# Altium integrated library Altium_WCAP-CSGP (rev22a).IntLib: 953 symbols (part 11 of 17)
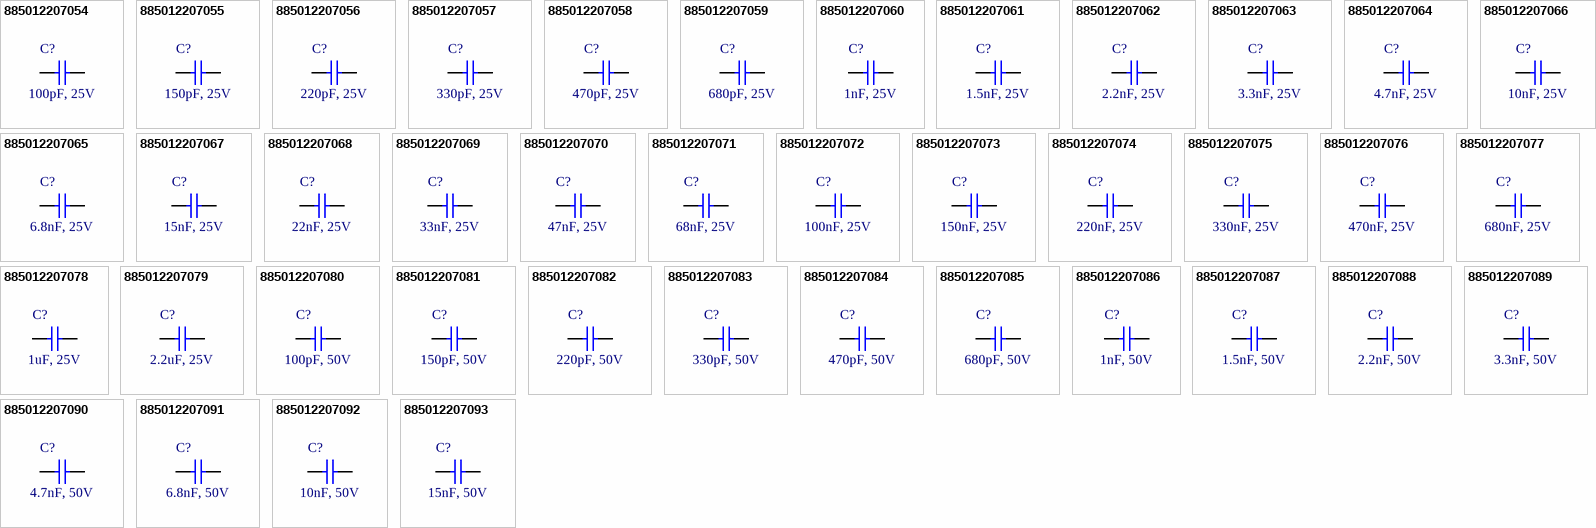
[diagram p37: symbols 885012207054 to 885012207093]

## 885012207086
designator C?, comment 1nF, 50V
WCAP-CSGP Multilayer Ceramic Chip Capacitor, General Purpose, size 0805, X7R, 1nF, 50V; Manufacturer: Wurth Elektronik; Manufacturer Part Number: 885012207086; Capacitance Tolerance: +/-10%; Dissipation Factor: 2.5%; Isolation Resistance: 10GOhm; Technical Reference: X7R0805102K050DFCT10000; Capacitance: 1nF; Ceramic Type: X7R; ComponentLink1Description: Manufacturer Link; ComponentLink1URL: http://www.we-online.de; ComponentLink2Description: Datasheet; ComponentLink2URL: https://www.we-online.com/catalog/datasheet/885012207086.pdf; Height: 0.8mm; Length: 2mm; Mounting Technology: SMT; Operating Temperature max.: 125C; Operating Temperature min.: -55C; Packaging: Tape and Reel; Rated Voltage: 50V; Size: 0805; Width: 1.25mm
footprint WCAP-CSGP_0805_L2W1.25H0.8_Wave
footprint WCAP-CSGP_0805_L2W1.25H0.8_Reflow
pins: 1, 2

## 885012207087
designator C?, comment 1.5nF, 50V
WCAP-CSGP Multilayer Ceramic Chip Capacitor, General Purpose, size 0805, X7R, 1.5nF, 50V; Manufacturer: Wurth Elektronik; Manufacturer Part Number: 885012207087; Capacitance Tolerance: +/-10%; Dissipation Factor: 2.5%; Isolation Resistance: 10GOhm; Technical Reference: X7R0805152K050DFCT10000; Capacitance: 1.5nF; Ceramic Type: X7R; ComponentLink1Description: Manufacturer Link; ComponentLink1URL: http://www.we-online.de; ComponentLink2Description: Datasheet; ComponentLink2URL: https://www.we-online.com/catalog/datasheet/885012207087.pdf; Height: 0.8mm; Length: 2mm; Mounting Technology: SMT; Operating Temperature max.: 125C; Operating Temperature min.: -55C; Packaging: Tape and Reel; Rated Voltage: 50V; Size: 0805; Width: 1.25mm
footprint WCAP-CSGP_0805_L2W1.25H0.8_Wave
footprint WCAP-CSGP_0805_L2W1.25H0.8_Reflow
pins: 1, 2

## 885012207088
designator C?, comment 2.2nF, 50V
WCAP-CSGP Multilayer Ceramic Chip Capacitor, General Purpose, size 0805, X7R, 2.2nF, 50V; Manufacturer: Wurth Elektronik; Manufacturer Part Number: 885012207088; Capacitance Tolerance: +/-10%; Dissipation Factor: 2.5%; Isolation Resistance: 10GOhm; Technical Reference: X7R0805222K050DFCT10000; Capacitance: 2.2nF; Ceramic Type: X7R; ComponentLink1Description: Manufacturer Link; ComponentLink1URL: http://www.we-online.de; ComponentLink2Description: Datasheet; ComponentLink2URL: https://www.we-online.com/catalog/datasheet/885012207088.pdf; Height: 0.8mm; Length: 2mm; Mounting Technology: SMT; Operating Temperature max.: 125C; Operating Temperature min.: -55C; Packaging: Tape and Reel; Rated Voltage: 50V; Size: 0805; Width: 1.25mm
footprint WCAP-CSGP_0805_L2W1.25H0.8_Wave
footprint WCAP-CSGP_0805_L2W1.25H0.8_Reflow
pins: 1, 2

## 885012207089
designator C?, comment 3.3nF, 50V
WCAP-CSGP Multilayer Ceramic Chip Capacitor, General Purpose, size 0805, X7R, 3.3nF, 50V; Manufacturer: Wurth Elektronik; Manufacturer Part Number: 885012207089; Capacitance Tolerance: +/-10%; Dissipation Factor: 2.5%; Isolation Resistance: 10GOhm; Technical Reference: X7R0805332K050DFCT10000; Capacitance: 3.3nF; Ceramic Type: X7R; ComponentLink1Description: Manufacturer Link; ComponentLink1URL: http://www.we-online.de; ComponentLink2Description: Datasheet; ComponentLink2URL: https://www.we-online.com/catalog/datasheet/885012207089.pdf; Height: 0.8mm; Length: 2mm; Mounting Technology: SMT; Operating Temperature max.: 125C; Operating Temperature min.: -55C; Packaging: Tape and Reel; Rated Voltage: 50V; Size: 0805; Width: 1.25mm
footprint WCAP-CSGP_0805_L2W1.25H0.8_Wave
footprint WCAP-CSGP_0805_L2W1.25H0.8_Reflow
pins: 1, 2

## 885012207090
designator C?, comment 4.7nF, 50V
WCAP-CSGP Multilayer Ceramic Chip Capacitor, General Purpose, size 0805, X7R, 4.7nF, 50V; Manufacturer: Wurth Elektronik; Manufacturer Part Number: 885012207090; Capacitance Tolerance: +/-10%; Dissipation Factor: 2.5%; Isolation Resistance: 10GOhm; Technical Reference: X7R0805472K050DFCT10000; Capacitance: 4.7nF; Ceramic Type: X7R; ComponentLink1Description: Manufacturer Link; ComponentLink1URL: http://www.we-online.de; ComponentLink2Description: Datasheet; ComponentLink2URL: https://www.we-online.com/catalog/datasheet/885012207090.pdf; Height: 0.8mm; Length: 2mm; Mounting Technology: SMT; Operating Temperature max.: 125C; Operating Temperature min.: -55C; Packaging: Tape and Reel; Rated Voltage: 50V; Size: 0805; Width: 1.25mm
footprint WCAP-CSGP_0805_L2W1.25H0.8_Wave
footprint WCAP-CSGP_0805_L2W1.25H0.8_Reflow
pins: 1, 2

## 885012207091
designator C?, comment 6.8nF, 50V
WCAP-CSGP Multilayer Ceramic Chip Capacitor, General Purpose, size 0805, X7R, 6.8nF, 50V; Manufacturer: Wurth Elektronik; Manufacturer Part Number: 885012207091; Capacitance Tolerance: +/-10%; Dissipation Factor: 2.5%; Isolation Resistance: 10GOhm; Technical Reference: X7R0805682K050DFCT10000; Capacitance: 6.8nF; Ceramic Type: X7R; ComponentLink1Description: Manufacturer Link; ComponentLink1URL: http://www.we-online.de; ComponentLink2Description: Datasheet; ComponentLink2URL: https://www.we-online.com/catalog/datasheet/885012207091.pdf; Height: 0.8mm; Length: 2mm; Mounting Technology: SMT; Operating Temperature max.: 125C; Operating Temperature min.: -55C; Packaging: Tape and Reel; Rated Voltage: 50V; Size: 0805; Width: 1.25mm
footprint WCAP-CSGP_0805_L2W1.25H0.8_Wave
footprint WCAP-CSGP_0805_L2W1.25H0.8_Reflow
pins: 1, 2

## 885012207092
designator C?, comment 10nF, 50V
WCAP-CSGP Multilayer Ceramic Chip Capacitor, General Purpose, size 0805, X7R, 10nF, 50V; Manufacturer: Wurth Elektronik; Manufacturer Part Number: 885012207092; Capacitance Tolerance: +/-10%; Dissipation Factor: 2.5%; Isolation Resistance: 10GOhm; Technical Reference: X7R0805103K050DFCT10000; Capacitance: 10nF; Ceramic Type: X7R; ComponentLink1Description: Manufacturer Link; ComponentLink1URL: http://www.we-online.de; ComponentLink2Description: Datasheet; ComponentLink2URL: https://www.we-online.com/catalog/datasheet/885012207092.pdf; Height: 0.8mm; Length: 2mm; Mounting Technology: SMT; Operating Temperature max.: 125C; Operating Temperature min.: -55C; Packaging: Tape and Reel; Rated Voltage: 50V; Size: 0805; Width: 1.25mm
footprint WCAP-CSGP_0805_L2W1.25H0.8_Wave
footprint WCAP-CSGP_0805_L2W1.25H0.8_Reflow
pins: 1, 2

## 885012207093
designator C?, comment 15nF, 50V
WCAP-CSGP Multilayer Ceramic Chip Capacitor, General Purpose, size 0805, X7R, 15nF, 50V; Manufacturer: Wurth Elektronik; Manufacturer Part Number: 885012207093; Capacitance Tolerance: +/-10%; Dissipation Factor: 2.5%; Isolation Resistance: 10GOhm; Technical Reference: X7R0805153K050DFCT10000; Capacitance: 15nF; Ceramic Type: X7R; ComponentLink1Description: Manufacturer Link; ComponentLink1URL: http://www.we-online.de; ComponentLink2Description: Datasheet; ComponentLink2URL: https://www.we-online.com/catalog/datasheet/885012207093.pdf; Height: 0.8mm; Length: 2mm; Mounting Technology: SMT; Operating Temperature max.: 125C; Operating Temperature min.: -55C; Packaging: Tape and Reel; Rated Voltage: 50V; Size: 0805; Width: 1.25mm
footprint WCAP-CSGP_0805_L2W1.25H0.8_Wave
footprint WCAP-CSGP_0805_L2W1.25H0.8_Reflow
pins: 1, 2

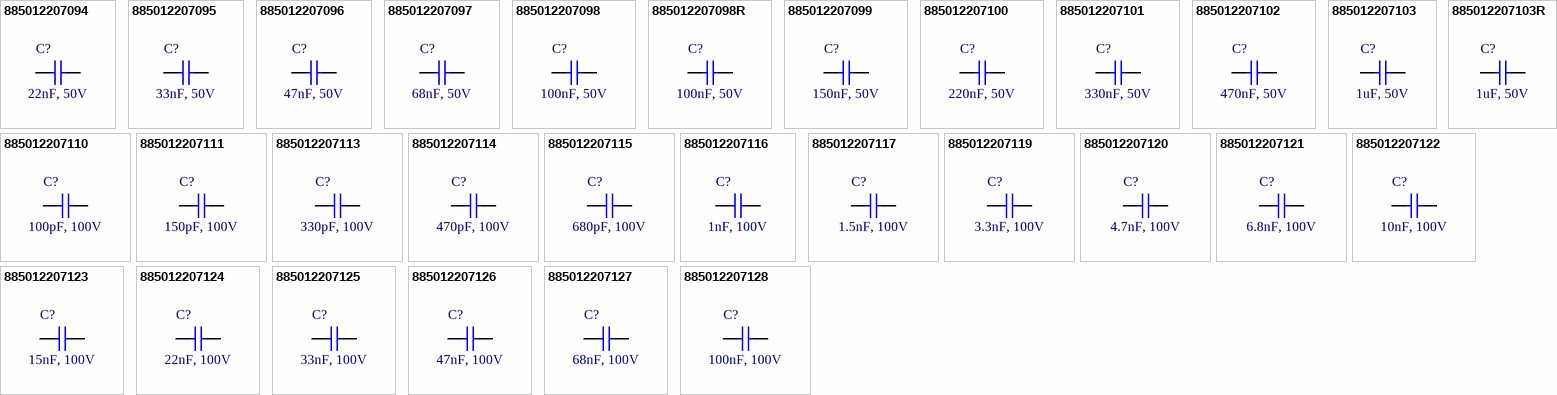
[diagram p16: symbols 885012207094 to 885012207128]

## 885012207094
designator C?, comment 22nF, 50V
WCAP-CSGP Multilayer Ceramic Chip Capacitor, General Purpose, size 0805, X7R, 22nF, 50V; Manufacturer: Wurth Elektronik; Manufacturer Part Number: 885012207094; Capacitance Tolerance: +/-10%; Dissipation Factor: 2.5%; Isolation Resistance: 10GOhm; Technical Reference: X7R0805223K050DFCT10000; Capacitance: 22nF; Ceramic Type: X7R; ComponentLink1Description: Manufacturer Link; ComponentLink1URL: http://www.we-online.de; ComponentLink2Description: Datasheet; ComponentLink2URL: https://www.we-online.com/catalog/datasheet/885012207094.pdf; Height: 0.8mm; Length: 2mm; Mounting Technology: SMT; Operating Temperature max.: 125C; Operating Temperature min.: -55C; Packaging: Tape and Reel; Rated Voltage: 50V; Size: 0805; Width: 1.25mm
footprint WCAP-CSGP_0805_L2W1.25H0.8_Wave
footprint WCAP-CSGP_0805_L2W1.25H0.8_Reflow
pins: 1, 2

## 885012207095
designator C?, comment 33nF, 50V
WCAP-CSGP Multilayer Ceramic Chip Capacitor, General Purpose, size 0805, X7R, 33nF, 50V; Manufacturer: Wurth Elektronik; Manufacturer Part Number: 885012207095; Capacitance Tolerance: +/-10%; Dissipation Factor: 2.5%; Isolation Resistance: 10GOhm; Technical Reference: X7R0805333K050DFCT10000; Capacitance: 33nF; Ceramic Type: X7R; ComponentLink1Description: Manufacturer Link; ComponentLink1URL: http://www.we-online.de; ComponentLink2Description: Datasheet; ComponentLink2URL: https://www.we-online.com/catalog/datasheet/885012207095.pdf; Height: 0.8mm; Length: 2mm; Mounting Technology: SMT; Operating Temperature max.: 125C; Operating Temperature min.: -55C; Packaging: Tape and Reel; Rated Voltage: 50V; Size: 0805; Width: 1.25mm
footprint WCAP-CSGP_0805_L2W1.25H0.8_Wave
footprint WCAP-CSGP_0805_L2W1.25H0.8_Reflow
pins: 1, 2

## 885012207096
designator C?, comment 47nF, 50V
WCAP-CSGP Multilayer Ceramic Chip Capacitor, General Purpose, size 0805, X7R, 47nF, 50V; Manufacturer: Wurth Elektronik; Manufacturer Part Number: 885012207096; Capacitance Tolerance: +/-10%; Dissipation Factor: 2.5%; Isolation Resistance: 10GOhm; Technical Reference: X7R0805473K050DFCT10000; Capacitance: 47nF; Ceramic Type: X7R; ComponentLink1Description: Manufacturer Link; ComponentLink1URL: http://www.we-online.de; ComponentLink2Description: Datasheet; ComponentLink2URL: https://www.we-online.com/catalog/datasheet/885012207096.pdf; Height: 0.8mm; Length: 2mm; Mounting Technology: SMT; Operating Temperature max.: 125C; Operating Temperature min.: -55C; Packaging: Tape and Reel; Rated Voltage: 50V; Size: 0805; Width: 1.25mm
footprint WCAP-CSGP_0805_L2W1.25H0.8_Wave
footprint WCAP-CSGP_0805_L2W1.25H0.8_Reflow
pins: 1, 2

## 885012207097
designator C?, comment 68nF, 50V
WCAP-CSGP Multilayer Ceramic Chip Capacitor, General Purpose, size 0805, X7R, 68nF, 50V; Manufacturer: Wurth Elektronik; Manufacturer Part Number: 885012207097; Capacitance Tolerance: +/-10%; Dissipation Factor: 2.5%; Isolation Resistance: 7.4GOhm; Technical Reference: X7R0805683K050DFCT10000; Capacitance: 68nF; Ceramic Type: X7R; ComponentLink1Description: Manufacturer Link; ComponentLink1URL: http://www.we-online.de; ComponentLink2Description: Datasheet; ComponentLink2URL: https://www.we-online.com/catalog/datasheet/885012207097.pdf; Height: 0.8mm; Length: 2mm; Mounting Technology: SMT; Operating Temperature max.: 125C; Operating Temperature min.: -55C; Packaging: Tape and Reel; Rated Voltage: 50V; Size: 0805; Width: 1.25mm
footprint WCAP-CSGP_0805_L2W1.25H0.8_Wave
footprint WCAP-CSGP_0805_L2W1.25H0.8_Reflow
pins: 1, 2

## 885012207098
designator C?, comment 100nF, 50V
WCAP-CSGP Multilayer Ceramic Chip Capacitor, General Purpose, size 0805, X7R, 100nF, 50V; Manufacturer: Wurth Elektronik; Manufacturer Part Number: 885012207098; Capacitance Tolerance: +/-10%; Dissipation Factor: 2.5%; Isolation Resistance: 5GOhm; Technical Reference: X7R0805104K050DFCT10000; Capacitance: 100nF; Ceramic Type: X7R; ComponentLink1Description: Manufacturer Link; ComponentLink1URL: http://www.we-online.de; ComponentLink2Description: Datasheet; ComponentLink2URL: https://www.we-online.com/catalog/datasheet/885012207098.pdf; Height: 0.8mm; Length: 2mm; Mounting Technology: SMT; Operating Temperature max.: 125C; Operating Temperature min.: -55C; Packaging: Tape and Reel; Rated Voltage: 50V; Size: 0805; Width: 1.25mm
footprint WCAP-CSGP_0805_L2W1.25H0.8_Wave
footprint WCAP-CSGP_0805_L2W1.25H0.8_Reflow
pins: 1, 2

## 885012207098R
designator C?, comment 100nF, 50V
WCAP-CSGP Multilayer Ceramic Chip Capacitor, General Purpose, size 0805, X7R, 100nF, 50V; Manufacturer: Wurth Elektronik; Manufacturer Part Number: 885012207098R; Capacitance Tolerance: +/-10%; Dissipation Factor: 2.5%; Isolation Resistance: 5GOhm; Technical Reference: X7R0805104K050DFCT20000; Capacitance: 100nF; Ceramic Type: X7R; ComponentLink1Description: Manufacturer Link; ComponentLink1URL: http://www.we-online.de; ComponentLink2Description: Datasheet; ComponentLink2URL: https://www.we-online.com/catalog/datasheet/885012207098R.pdf; Height: 0.8mm; Length: 2mm; Mounting Technology: SMT; Operating Temperature max.: 125C; Operating Temperature min.: -55C; Packaging: Tape and Reel; Rated Voltage: 50V; Size: 0805; Width: 1.25mm
footprint WCAP-CSGP_0805_L2W1.25H0.8_Wave
footprint WCAP-CSGP_0805_L2W1.25H0.8_Reflow
pins: 1, 2

## 885012207099
designator C?, comment 150nF, 50V
WCAP-CSGP Multilayer Ceramic Chip Capacitor, General Purpose, size 0805, X7R, 150nF, 50V; Manufacturer: Wurth Elektronik; Manufacturer Part Number: 885012207099; Capacitance Tolerance: +/-10%; Dissipation Factor: 2.5%; Isolation Resistance: 3.3GOhm; Technical Reference: X7R0805154K050DFCT10000; Capacitance: 150nF; Ceramic Type: X7R; ComponentLink1Description: Manufacturer Link; ComponentLink1URL: http://www.we-online.de; ComponentLink2Description: Datasheet; ComponentLink2URL: https://www.we-online.com/catalog/datasheet/885012207099.pdf; Height: 1.25mm; Length: 2mm; Mounting Technology: SMT; Operating Temperature max.: 125C; Operating Temperature min.: -55C; Packaging: Tape and Reel; Rated Voltage: 50V; Size: 0805; Width: 1.25mm
footprint WCAP-CSGP_0805_L2W1.25H1.25
pins: 1, 2

## 885012207100
designator C?, comment 220nF, 50V
WCAP-CSGP Multilayer Ceramic Chip Capacitor, General Purpose, size 0805, X7R, 220nF, 50V; Manufacturer: Wurth Elektronik; Manufacturer Part Number: 885012207100; Capacitance Tolerance: +/-10%; Dissipation Factor: 3%; Isolation Resistance: 2.3GOhm; Technical Reference: X7R0805224K050DFCT10000; Capacitance: 220nF; Ceramic Type: X7R; ComponentLink1Description: Manufacturer Link; ComponentLink1URL: http://www.we-online.de; ComponentLink2Description: Datasheet; ComponentLink2URL: https://www.we-online.com/catalog/datasheet/885012207100.pdf; Height: 1.25mm; Length: 2mm; Mounting Technology: SMT; Operating Temperature max.: 125C; Operating Temperature min.: -55C; Packaging: Tape and Reel; Rated Voltage: 50V; Size: 0805; Width: 1.25mm
footprint WCAP-CSGP_0805_L2W1.25H1.25
pins: 1, 2

## 885012207101
designator C?, comment 330nF, 50V
WCAP-CSGP Multilayer Ceramic Chip Capacitor, General Purpose, size 0805, X7R, 330nF, 50V; Manufacturer: Wurth Elektronik; Manufacturer Part Number: 885012207101; Capacitance Tolerance: +/-10%; Dissipation Factor: 3%; Isolation Resistance: 1.5GOhm; Technical Reference: X7R0805334K050DFCT10000; Capacitance: 330nF; Ceramic Type: X7R; ComponentLink1Description: Manufacturer Link; ComponentLink1URL: http://www.we-online.de; ComponentLink2Description: Datasheet; ComponentLink2URL: https://www.we-online.com/catalog/datasheet/885012207101.pdf; Height: 1.25mm; Length: 2mm; Mounting Technology: SMT; Operating Temperature max.: 125C; Operating Temperature min.: -55C; Packaging: Tape and Reel; Rated Voltage: 50V; Size: 0805; Width: 1.25mm
footprint WCAP-CSGP_0805_L2W1.25H1.25
pins: 1, 2

## 885012207102
designator C?, comment 470nF, 50V
WCAP-CSGP Multilayer Ceramic Chip Capacitor, General Purpose, size 0805, X7R, 470nF, 50V; Manufacturer: Wurth Elektronik; Manufacturer Part Number: 885012207102; Capacitance Tolerance: +/-10%; Dissipation Factor: 3%; Isolation Resistance: 1.1GOhm; Technical Reference: X7R0805474K050DFCT10000; Capacitance: 470nF; Ceramic Type: X7R; ComponentLink1Description: Manufacturer Link; ComponentLink1URL: http://www.we-online.de; ComponentLink2Description: Datasheet; ComponentLink2URL: https://www.we-online.com/catalog/datasheet/885012207102.pdf; Height: 1.25mm; Length: 2mm; Mounting Technology: SMT; Operating Temperature max.: 125C; Operating Temperature min.: -55C; Packaging: Tape and Reel; Rated Voltage: 50V; Size: 0805; Width: 1.25mm
footprint WCAP-CSGP_0805_L2W1.25H1.25
pins: 1, 2

## 885012207103
designator C?, comment 1uF, 50V
WCAP-CSGP Multilayer Ceramic Chip Capacitor, General Purpose, size 0805, X7R, 1uF, 50V; Manufacturer: Wurth Elektronik; Manufacturer Part Number: 885012207103; Capacitance Tolerance: +/-10%; Dissipation Factor: 10%; Isolation Resistance: 0.1GOhm; Technical Reference: X7R0805105K050DFCT10000; Capacitance: 1uF; Ceramic Type: X7R; ComponentLink1Description: Manufacturer Link; ComponentLink1URL: http://www.we-online.de; ComponentLink2Description: Datasheet; ComponentLink2URL: https://www.we-online.com/catalog/datasheet/885012207103.pdf; Height: 1.25mm; Length: 2mm; Mounting Technology: SMT; Operating Temperature max.: 125C; Operating Temperature min.: -55C; Packaging: Tape and Reel; Rated Voltage: 50V; Size: 0805; Width: 1.25mm
footprint WCAP-CSGP_0805_L2W1.25H1.25
pins: 1, 2

## 885012207103R
designator C?, comment 1uF, 50V
WCAP-CSGP Multilayer Ceramic Chip Capacitor, General Purpose, size 0805, X7R, 1uF, 50V; Manufacturer: Wurth Elektronik; Manufacturer Part Number: 885012207103R; Capacitance Tolerance: +/-10%; Dissipation Factor: 10%; Isolation Resistance: 0.1GOhm; Technical Reference: X7R0805105K050DFCT20000; Capacitance: 1uF; Ceramic Type: X7R; ComponentLink1Description: Manufacturer Link; ComponentLink1URL: http://www.we-online.de; ComponentLink2Description: Datasheet; ComponentLink2URL: https://www.we-online.com/catalog/datasheet/885012207103R.pdf; Height: 1.25mm; Length: 2mm; Mounting Technology: SMT; Operating Temperature max.: 125C; Operating Temperature min.: -55C; Packaging: Tape and Reel; Rated Voltage: 50V; Size: 0805; Width: 1.25mm
footprint WCAP-CSGP_0805_L2W1.25H1.25
pins: 1, 2

## 885012207110
designator C?, comment 100pF, 100V
WCAP-CSGP Multilayer Ceramic Chip Capacitor, General Purpose, size 0805, X7R, 100pF, 100V; Manufacturer: Wurth Elektronik; Manufacturer Part Number: 885012207110; Capacitance Tolerance: +/-10%; Dissipation Factor: 2.5%; Isolation Resistance: 10GOhm; Technical Reference: X7R0805101K100DFCT10000; Capacitance: 100pF; Ceramic Type: X7R; ComponentLink1Description: Manufacturer Link; ComponentLink1URL: http://www.we-online.de; ComponentLink2Description: Datasheet; ComponentLink2URL: https://www.we-online.com/catalog/datasheet/885012207110.pdf; Height: 0.8mm; Length: 2mm; Mounting Technology: SMT; Operating Temperature max.: 125C; Operating Temperature min.: -55C; Packaging: Tape and Reel; Rated Voltage: 100V; Size: 0805; Width: 1.25mm
footprint WCAP-CSGP_0805_L2W1.25H0.8_Wave
footprint WCAP-CSGP_0805_L2W1.25H0.8_Reflow
pins: 1, 2

## 885012207111
designator C?, comment 150pF, 100V
WCAP-CSGP Multilayer Ceramic Chip Capacitor, General Purpose, size 0805, X7R, 150pF, 100V; Manufacturer: Wurth Elektronik; Manufacturer Part Number: 885012207111; Capacitance Tolerance: +/-10%; Dissipation Factor: 2.5%; Isolation Resistance: 10GOhm; Technical Reference: X7R0805151K100DFCT10000; Capacitance: 150pF; Ceramic Type: X7R; ComponentLink1Description: Manufacturer Link; ComponentLink1URL: http://www.we-online.de; ComponentLink2Description: Datasheet; ComponentLink2URL: https://www.we-online.com/catalog/datasheet/885012207111.pdf; Height: 0.8mm; Length: 2mm; Mounting Technology: SMT; Operating Temperature max.: 125C; Operating Temperature min.: -55C; Packaging: Tape and Reel; Rated Voltage: 100V; Size: 0805; Width: 1.25mm
footprint WCAP-CSGP_0805_L2W1.25H0.8_Wave
footprint WCAP-CSGP_0805_L2W1.25H0.8_Reflow
pins: 1, 2

## 885012207113
designator C?, comment 330pF, 100V
WCAP-CSGP Multilayer Ceramic Chip Capacitor, General Purpose, size 0805, X7R, 330pF, 100V; Manufacturer: Wurth Elektronik; Manufacturer Part Number: 885012207113; Capacitance Tolerance: +/-10%; Dissipation Factor: 2.5%; Isolation Resistance: 10GOhm; Technical Reference: X7R0805331K100DFCT10000; Capacitance: 330pF; Ceramic Type: X7R; ComponentLink1Description: Manufacturer Link; ComponentLink1URL: http://www.we-online.de; ComponentLink2Description: Datasheet; ComponentLink2URL: https://www.we-online.com/catalog/datasheet/885012207113.pdf; Height: 0.8mm; Length: 2mm; Mounting Technology: SMT; Operating Temperature max.: 125C; Operating Temperature min.: -55C; Packaging: Tape and Reel; Rated Voltage: 100V; Size: 0805; Width: 1.25mm
footprint WCAP-CSGP_0805_L2W1.25H0.8_Wave
footprint WCAP-CSGP_0805_L2W1.25H0.8_Reflow
pins: 1, 2

## 885012207114
designator C?, comment 470pF, 100V
WCAP-CSGP Multilayer Ceramic Chip Capacitor, General Purpose, size 0805, X7R, 470pF, 100V; Manufacturer: Wurth Elektronik; Manufacturer Part Number: 885012207114; Capacitance Tolerance: +/-10%; Dissipation Factor: 2.5%; Isolation Resistance: 10GOhm; Technical Reference: X7R0805471K100DFCT10000; Capacitance: 470pF; Ceramic Type: X7R; ComponentLink1Description: Manufacturer Link; ComponentLink1URL: http://www.we-online.de; ComponentLink2Description: Datasheet; ComponentLink2URL: https://www.we-online.com/catalog/datasheet/885012207114.pdf; Height: 0.8mm; Length: 2mm; Mounting Technology: SMT; Operating Temperature max.: 125C; Operating Temperature min.: -55C; Packaging: Tape and Reel; Rated Voltage: 100V; Size: 0805; Width: 1.25mm
footprint WCAP-CSGP_0805_L2W1.25H0.8_Wave
footprint WCAP-CSGP_0805_L2W1.25H0.8_Reflow
pins: 1, 2

## 885012207115
designator C?, comment 680pF, 100V
WCAP-CSGP Multilayer Ceramic Chip Capacitor, General Purpose, size 0805, X7R, 680pF, 100V; Manufacturer: Wurth Elektronik; Manufacturer Part Number: 885012207115; Capacitance Tolerance: +/-10%; Dissipation Factor: 2.5%; Isolation Resistance: 10GOhm; Technical Reference: X7R0805681K100DFCT10000; Capacitance: 680pF; Ceramic Type: X7R; ComponentLink1Description: Manufacturer Link; ComponentLink1URL: http://www.we-online.de; ComponentLink2Description: Datasheet; ComponentLink2URL: https://www.we-online.com/catalog/datasheet/885012207115.pdf; Height: 0.8mm; Length: 2mm; Mounting Technology: SMT; Operating Temperature max.: 125C; Operating Temperature min.: -55C; Packaging: Tape and Reel; Rated Voltage: 100V; Size: 0805; Width: 1.25mm
footprint WCAP-CSGP_0805_L2W1.25H0.8_Wave
footprint WCAP-CSGP_0805_L2W1.25H0.8_Reflow
pins: 1, 2

## 885012207116
designator C?, comment 1nF, 100V
WCAP-CSGP Multilayer Ceramic Chip Capacitor, General Purpose, size 0805, X7R, 1nF, 100V; Manufacturer: Wurth Elektronik; Manufacturer Part Number: 885012207116; Capacitance Tolerance: +/-10%; Dissipation Factor: 2.5%; Isolation Resistance: 10GOhm; Technical Reference: X7R0805102K100DFCT10000; Capacitance: 1nF; Ceramic Type: X7R; ComponentLink1Description: Manufacturer Link; ComponentLink1URL: http://www.we-online.de; ComponentLink2Description: Datasheet; ComponentLink2URL: https://www.we-online.com/catalog/datasheet/885012207116.pdf; Height: 0.8mm; Length: 2mm; Mounting Technology: SMT; Operating Temperature max.: 125C; Operating Temperature min.: -55C; Packaging: Tape and Reel; Rated Voltage: 100V; Size: 0805; Width: 1.25mm
footprint WCAP-CSGP_0805_L2W1.25H0.8_Wave
footprint WCAP-CSGP_0805_L2W1.25H0.8_Reflow
pins: 1, 2

## 885012207117
designator C?, comment 1.5nF, 100V
WCAP-CSGP Multilayer Ceramic Chip Capacitor, General Purpose, size 0805, X7R, 1.5nF, 100V; Manufacturer: Wurth Elektronik; Manufacturer Part Number: 885012207117; Capacitance Tolerance: +/-10%; Dissipation Factor: 2.5%; Isolation Resistance: 10GOhm; Technical Reference: X7R0805152K100DFCT10000; Capacitance: 1.5nF; Ceramic Type: X7R; ComponentLink1Description: Manufacturer Link; ComponentLink1URL: http://www.we-online.de; ComponentLink2Description: Datasheet; ComponentLink2URL: https://www.we-online.com/catalog/datasheet/885012207117.pdf; Height: 0.8mm; Length: 2mm; Mounting Technology: SMT; Operating Temperature max.: 125C; Operating Temperature min.: -55C; Packaging: Tape and Reel; Rated Voltage: 100V; Size: 0805; Width: 1.25mm
footprint WCAP-CSGP_0805_L2W1.25H0.8_Wave
footprint WCAP-CSGP_0805_L2W1.25H0.8_Reflow
pins: 1, 2

## 885012207119
designator C?, comment 3.3nF, 100V
WCAP-CSGP Multilayer Ceramic Chip Capacitor, General Purpose, size 0805, X7R, 3.3nF, 100V; Manufacturer: Wurth Elektronik; Manufacturer Part Number: 885012207119; Capacitance Tolerance: +/-10%; Dissipation Factor: 2.5%; Isolation Resistance: 10GOhm; Technical Reference: X7R0805332K100DFCT10000; Capacitance: 3.3nF; Ceramic Type: X7R; ComponentLink1Description: Manufacturer Link; ComponentLink1URL: http://www.we-online.de; ComponentLink2Description: Datasheet; ComponentLink2URL: https://www.we-online.com/catalog/datasheet/885012207119.pdf; Height: 0.8mm; Length: 2mm; Mounting Technology: SMT; Operating Temperature max.: 125C; Operating Temperature min.: -55C; Packaging: Tape and Reel; Rated Voltage: 100V; Size: 0805; Width: 1.25mm
footprint WCAP-CSGP_0805_L2W1.25H0.8_Wave
footprint WCAP-CSGP_0805_L2W1.25H0.8_Reflow
pins: 1, 2

## 885012207120
designator C?, comment 4.7nF, 100V
WCAP-CSGP Multilayer Ceramic Chip Capacitor, General Purpose, size 0805, X7R, 4.7nF, 100V; Manufacturer: Wurth Elektronik; Manufacturer Part Number: 885012207120; Capacitance Tolerance: +/-10%; Dissipation Factor: 2.5%; Isolation Resistance: 10GOhm; Technical Reference: X7R0805472K100DFCT10000; Capacitance: 4.7nF; Ceramic Type: X7R; ComponentLink1Description: Manufacturer Link; ComponentLink1URL: http://www.we-online.de; ComponentLink2Description: Datasheet; ComponentLink2URL: https://www.we-online.com/catalog/datasheet/885012207120.pdf; Height: 0.8mm; Length: 2mm; Mounting Technology: SMT; Operating Temperature max.: 125C; Operating Temperature min.: -55C; Packaging: Tape and Reel; Rated Voltage: 100V; Size: 0805; Width: 1.25mm
footprint WCAP-CSGP_0805_L2W1.25H0.8_Wave
footprint WCAP-CSGP_0805_L2W1.25H0.8_Reflow
pins: 1, 2

## 885012207121
designator C?, comment 6.8nF, 100V
WCAP-CSGP Multilayer Ceramic Chip Capacitor, General Purpose, size 0805, X7R, 6.8nF, 100V; Manufacturer: Wurth Elektronik; Manufacturer Part Number: 885012207121; Capacitance Tolerance: +/-10%; Dissipation Factor: 2.5%; Isolation Resistance: 10GOhm; Technical Reference: X7R0805682K100DFCT10000; Capacitance: 6.8nF; Ceramic Type: X7R; ComponentLink1Description: Manufacturer Link; ComponentLink1URL: http://www.we-online.de; ComponentLink2Description: Datasheet; ComponentLink2URL: https://www.we-online.com/catalog/datasheet/885012207121.pdf; Height: 0.8mm; Length: 2mm; Mounting Technology: SMT; Operating Temperature max.: 125C; Operating Temperature min.: -55C; Packaging: Tape and Reel; Rated Voltage: 100V; Size: 0805; Width: 1.25mm
footprint WCAP-CSGP_0805_L2W1.25H0.8_Wave
footprint WCAP-CSGP_0805_L2W1.25H0.8_Reflow
pins: 1, 2

## 885012207122
designator C?, comment 10nF, 100V
WCAP-CSGP Multilayer Ceramic Chip Capacitor, General Purpose, size 0805, X7R, 10nF, 100V; Manufacturer: Wurth Elektronik; Manufacturer Part Number: 885012207122; Capacitance Tolerance: +/-10%; Dissipation Factor: 2.5%; Isolation Resistance: 10GOhm; Technical Reference: X7R0805103K100DFCT10000; Capacitance: 10nF; Ceramic Type: X7R; ComponentLink1Description: Manufacturer Link; ComponentLink1URL: http://www.we-online.de; ComponentLink2Description: Datasheet; ComponentLink2URL: https://www.we-online.com/catalog/datasheet/885012207122.pdf; Height: 0.8mm; Length: 2mm; Mounting Technology: SMT; Operating Temperature max.: 125C; Operating Temperature min.: -55C; Packaging: Tape and Reel; Rated Voltage: 100V; Size: 0805; Width: 1.25mm
footprint WCAP-CSGP_0805_L2W1.25H0.8_Wave
footprint WCAP-CSGP_0805_L2W1.25H0.8_Reflow
pins: 1, 2

## 885012207123
designator C?, comment 15nF, 100V
WCAP-CSGP Multilayer Ceramic Chip Capacitor, General Purpose, size 0805, X7R, 15nF, 100V; Manufacturer: Wurth Elektronik; Manufacturer Part Number: 885012207123; Capacitance Tolerance: +/-10%; Dissipation Factor: 2.5%; Isolation Resistance: 6.7GOhm; Technical Reference: X7R0805153K100DFCT10000; Capacitance: 15nF; Ceramic Type: X7R; ComponentLink1Description: Manufacturer Link; ComponentLink1URL: http://www.we-online.de; ComponentLink2Description: Datasheet; ComponentLink2URL: https://www.we-online.com/catalog/datasheet/885012207123.pdf; Height: 0.8mm; Length: 2mm; Mounting Technology: SMT; Operating Temperature max.: 125C; Operating Temperature min.: -55C; Packaging: Tape and Reel; Rated Voltage: 100V; Size: 0805; Width: 1.25mm
footprint WCAP-CSGP_0805_L2W1.25H0.8_Wave
footprint WCAP-CSGP_0805_L2W1.25H0.8_Reflow
pins: 1, 2

## 885012207124
designator C?, comment 22nF, 100V
WCAP-CSGP Multilayer Ceramic Chip Capacitor, General Purpose, size 0805, X7R, 22nF, 100V; Manufacturer: Wurth Elektronik; Manufacturer Part Number: 885012207124; Capacitance Tolerance: +/-10%; Dissipation Factor: 2.5%; Isolation Resistance: 4.5GOhm; Technical Reference: X7R0805223K100DFCT10000; Capacitance: 22nF; Ceramic Type: X7R; ComponentLink1Description: Manufacturer Link; ComponentLink1URL: http://www.we-online.de; ComponentLink2Description: Datasheet; ComponentLink2URL: https://www.we-online.com/catalog/datasheet/885012207124.pdf; Height: 0.8mm; Length: 2mm; Mounting Technology: SMT; Operating Temperature max.: 125C; Operating Temperature min.: -55C; Packaging: Tape and Reel; Rated Voltage: 100V; Size: 0805; Width: 1.25mm
footprint WCAP-CSGP_0805_L2W1.25H0.8_Wave
footprint WCAP-CSGP_0805_L2W1.25H0.8_Reflow
pins: 1, 2

## 885012207125
designator C?, comment 33nF, 100V
WCAP-CSGP Multilayer Ceramic Chip Capacitor, General Purpose, size 0805, X7R, 33nF, 100V; Manufacturer: Wurth Elektronik; Manufacturer Part Number: 885012207125; Capacitance Tolerance: +/-10%; Dissipation Factor: 2.5%; Isolation Resistance: 3GOhm; Technical Reference: X7R0805333K100DFCT10000; Capacitance: 33nF; Ceramic Type: X7R; ComponentLink1Description: Manufacturer Link; ComponentLink1URL: http://www.we-online.de; ComponentLink2Description: Datasheet; ComponentLink2URL: https://www.we-online.com/catalog/datasheet/885012207125.pdf; Height: 1.25mm; Length: 2mm; Mounting Technology: SMT; Operating Temperature max.: 125C; Operating Temperature min.: -55C; Packaging: Tape and Reel; Rated Voltage: 100V; Size: 0805; Width: 1.25mm
footprint WCAP-CSGP_0805_L2W1.25H1.25
pins: 1, 2

## 885012207126
designator C?, comment 47nF, 100V
WCAP-CSGP Multilayer Ceramic Chip Capacitor, General Purpose, size 0805, X7R, 47nF, 100V; Manufacturer: Wurth Elektronik; Manufacturer Part Number: 885012207126; Capacitance Tolerance: +/-10%; Dissipation Factor: 2.5%; Isolation Resistance: 2.1GOhm; Technical Reference: X7R0805473K100DFCT10000; Capacitance: 47nF; Ceramic Type: X7R; ComponentLink1Description: Manufacturer Link; ComponentLink1URL: http://www.we-online.de; ComponentLink2Description: Datasheet; ComponentLink2URL: https://www.we-online.com/catalog/datasheet/885012207126.pdf; Height: 1.25mm; Length: 2mm; Mounting Technology: SMT; Operating Temperature max.: 125C; Operating Temperature min.: -55C; Packaging: Tape and Reel; Rated Voltage: 100V; Size: 0805; Width: 1.25mm
footprint WCAP-CSGP_0805_L2W1.25H1.25
pins: 1, 2

## 885012207127
designator C?, comment 68nF, 100V
WCAP-CSGP Multilayer Ceramic Chip Capacitor, General Purpose, size 0805, X7R, 68nF, 100V; Manufacturer: Wurth Elektronik; Manufacturer Part Number: 885012207127; Capacitance Tolerance: +/-10%; Dissipation Factor: 2.5%; Isolation Resistance: 1.5GOhm; Technical Reference: X7R0805683K100DFCT10000; Capacitance: 68nF; Ceramic Type: X7R; ComponentLink1Description: Manufacturer Link; ComponentLink1URL: http://www.we-online.de; ComponentLink2Description: Datasheet; ComponentLink2URL: https://www.we-online.com/catalog/datasheet/885012207127.pdf; Height: 1.25mm; Length: 2mm; Mounting Technology: SMT; Operating Temperature max.: 125C; Operating Temperature min.: -55C; Packaging: Tape and Reel; Rated Voltage: 100V; Size: 0805; Width: 1.25mm
footprint WCAP-CSGP_0805_L2W1.25H1.25
pins: 1, 2

## 885012207128
designator C?, comment 100nF, 100V
WCAP-CSGP Multilayer Ceramic Chip Capacitor, General Purpose, size 0805, X7R, 100nF, 100V; Manufacturer: Wurth Elektronik; Manufacturer Part Number: 885012207128; Capacitance Tolerance: +/-10%; Dissipation Factor: 2.5%; Isolation Resistance: 1GOhm; Technical Reference: X7R0805104K100DFCT10000; Capacitance: 100nF; Ceramic Type: X7R; ComponentLink1Description: Manufacturer Link; ComponentLink1URL: http://www.we-online.de; ComponentLink2Description: Datasheet; ComponentLink2URL: https://www.we-online.com/catalog/datasheet/885012207128.pdf; Height: 1.25mm; Length: 2mm; Mounting Technology: SMT; Operating Temperature max.: 125C; Operating Temperature min.: -55C; Packaging: Tape and Reel; Rated Voltage: 100V; Size: 0805; Width: 1.25mm
footprint WCAP-CSGP_0805_L2W1.25H1.25
pins: 1, 2


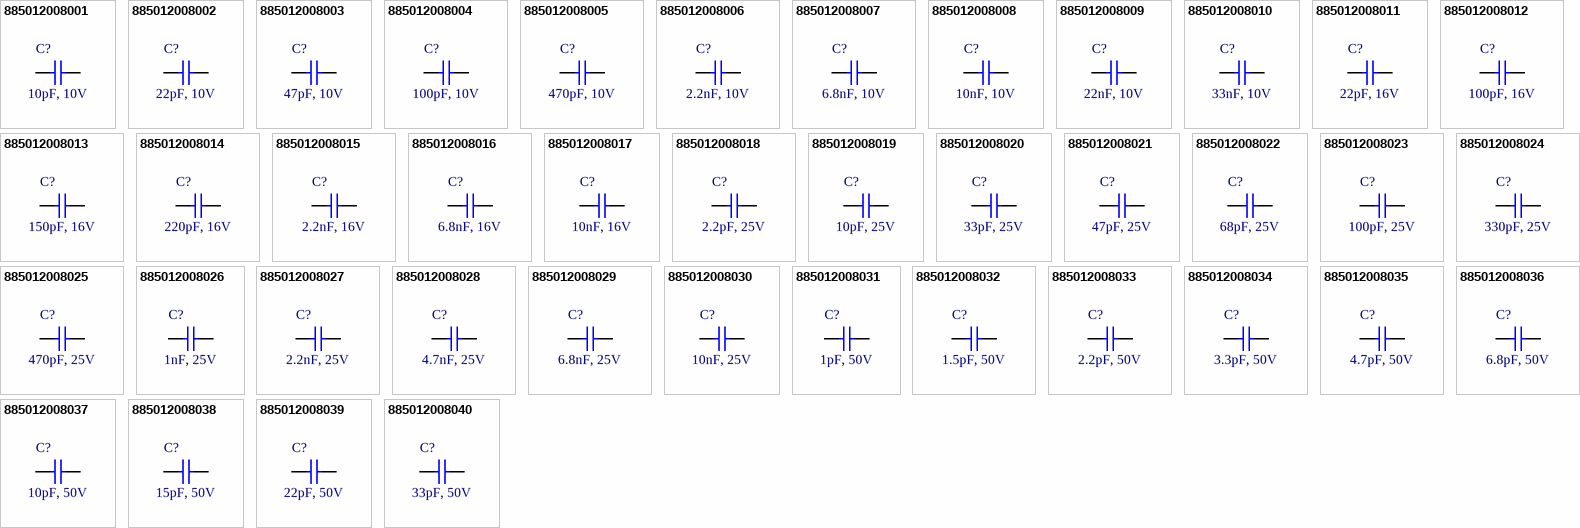
[diagram p17: symbols 885012008001 to 885012008040]

## 885012008001
designator C?, comment 10pF, 10V
WCAP-CSGP Multilayer Ceramic Chip Capacitor, General Purpose, size 1206, NP0, 10pF, 10V; Manufacturer: Wurth Elektronik; Manufacturer Part Number: 885012008001; Capacitance Tolerance: +/-5%; Isolation Resistance: 10GOhm; Q-Factor: 600; Technical Reference: NP01206100J010DFCT10000; Capacitance: 10pF; Ceramic Type: NP0; ComponentLink1Description: Manufacturer Link; ComponentLink1URL: http://www.we-online.de; ComponentLink2Description: Datasheet; ComponentLink2URL: https://www.we-online.com/catalog/datasheet/885012008001.pdf; Height: 0.8mm; Length: 3.2mm; Mounting Technology: SMT; Operating Temperature max.: 125C; Operating Temperature min.: -55C; Packaging: Tape and Reel; Rated Voltage: 10V; Size: 1206; Width: 1.6mm
footprint WCAP-CSGP_1206_L3.2W1.6H0.8
pins: 1, 2

## 885012008002
designator C?, comment 22pF, 10V
WCAP-CSGP Multilayer Ceramic Chip Capacitor, General Purpose, size 1206, NP0, 22pF, 10V; Manufacturer: Wurth Elektronik; Manufacturer Part Number: 885012008002; Capacitance Tolerance: +/-5%; Isolation Resistance: 10GOhm; Q-Factor: 840; Technical Reference: NP01206220J010DFCT10000; Capacitance: 22pF; Ceramic Type: NP0; ComponentLink1Description: Manufacturer Link; ComponentLink1URL: http://www.we-online.de; ComponentLink2Description: Datasheet; ComponentLink2URL: https://www.we-online.com/catalog/datasheet/885012008002.pdf; Height: 0.8mm; Length: 3.2mm; Mounting Technology: SMT; Operating Temperature max.: 125C; Operating Temperature min.: -55C; Packaging: Tape and Reel; Rated Voltage: 10V; Size: 1206; Width: 1.6mm
footprint WCAP-CSGP_1206_L3.2W1.6H0.8
pins: 1, 2

## 885012008003
designator C?, comment 47pF, 10V
WCAP-CSGP Multilayer Ceramic Chip Capacitor, General Purpose, size 1206, NP0, 47pF, 10V; Manufacturer: Wurth Elektronik; Manufacturer Part Number: 885012008003; Capacitance Tolerance: +/-5%; Isolation Resistance: 10GOhm; Q-Factor: 1000; Technical Reference: NP01206470J010DFCT10000; Capacitance: 47pF; Ceramic Type: NP0; ComponentLink1Description: Manufacturer Link; ComponentLink1URL: http://www.we-online.de; ComponentLink2Description: Datasheet; ComponentLink2URL: https://www.we-online.com/catalog/datasheet/885012008003.pdf; Height: 0.8mm; Length: 3.2mm; Mounting Technology: SMT; Operating Temperature max.: 125C; Operating Temperature min.: -55C; Packaging: Tape and Reel; Rated Voltage: 10V; Size: 1206; Width: 1.6mm
footprint WCAP-CSGP_1206_L3.2W1.6H0.8
pins: 1, 2

## 885012008004
designator C?, comment 100pF, 10V
WCAP-CSGP Multilayer Ceramic Chip Capacitor, General Purpose, size 1206, NP0, 100pF, 10V; Manufacturer: Wurth Elektronik; Manufacturer Part Number: 885012008004; Capacitance Tolerance: +/-5%; Isolation Resistance: 10GOhm; Q-Factor: 1000; Technical Reference: NP01206101J010DFCT10000; Capacitance: 100pF; Ceramic Type: NP0; ComponentLink1Description: Manufacturer Link; ComponentLink1URL: http://www.we-online.de; ComponentLink2Description: Datasheet; ComponentLink2URL: https://www.we-online.com/catalog/datasheet/885012008004.pdf; Height: 0.8mm; Length: 3.2mm; Mounting Technology: SMT; Operating Temperature max.: 125C; Operating Temperature min.: -55C; Packaging: Tape and Reel; Rated Voltage: 10V; Size: 1206; Width: 1.6mm
footprint WCAP-CSGP_1206_L3.2W1.6H0.8
pins: 1, 2

## 885012008005
designator C?, comment 470pF, 10V
WCAP-CSGP Multilayer Ceramic Chip Capacitor, General Purpose, size 1206, NP0, 470pF, 10V; Manufacturer: Wurth Elektronik; Manufacturer Part Number: 885012008005; Capacitance Tolerance: +/-5%; Isolation Resistance: 10GOhm; Q-Factor: 1000; Technical Reference: NP01206471J010DFCT10000; Capacitance: 470pF; Ceramic Type: NP0; ComponentLink1Description: Manufacturer Link; ComponentLink1URL: http://www.we-online.de; ComponentLink2Description: Datasheet; ComponentLink2URL: https://www.we-online.com/catalog/datasheet/885012008005.pdf; Height: 0.8mm; Length: 3.2mm; Mounting Technology: SMT; Operating Temperature max.: 125C; Operating Temperature min.: -55C; Packaging: Tape and Reel; Rated Voltage: 10V; Size: 1206; Width: 1.6mm
footprint WCAP-CSGP_1206_L3.2W1.6H0.8
pins: 1, 2

## 885012008006
designator C?, comment 2.2nF, 10V
WCAP-CSGP Multilayer Ceramic Chip Capacitor, General Purpose, size 1206, NP0, 2.2nF, 10V; Manufacturer: Wurth Elektronik; Manufacturer Part Number: 885012008006; Capacitance Tolerance: +/-5%; Isolation Resistance: 10GOhm; Q-Factor: 1000; Technical Reference: NP01206222J010DFCT10000; Capacitance: 2.2nF; Ceramic Type: NP0; ComponentLink1Description: Manufacturer Link; ComponentLink1URL: http://www.we-online.de; ComponentLink2Description: Datasheet; ComponentLink2URL: https://www.we-online.com/catalog/datasheet/885012008006.pdf; Height: 0.8mm; Length: 3.2mm; Mounting Technology: SMT; Operating Temperature max.: 125C; Operating Temperature min.: -55C; Packaging: Tape and Reel; Rated Voltage: 10V; Size: 1206; Width: 1.6mm
footprint WCAP-CSGP_1206_L3.2W1.6H0.8
pins: 1, 2

## 885012008007
designator C?, comment 6.8nF, 10V
WCAP-CSGP Multilayer Ceramic Chip Capacitor, General Purpose, size 1206, NP0, 6.8nF, 10V; Manufacturer: Wurth Elektronik; Manufacturer Part Number: 885012008007; Capacitance Tolerance: +/-5%; Isolation Resistance: 10GOhm; Q-Factor: 1000; Technical Reference: NP01206682J010DFCT10000; Capacitance: 6.8nF; Ceramic Type: NP0; ComponentLink1Description: Manufacturer Link; ComponentLink1URL: http://www.we-online.de; ComponentLink2Description: Datasheet; ComponentLink2URL: https://www.we-online.com/catalog/datasheet/885012008007.pdf; Height: 0.95mm; Length: 3.2mm; Mounting Technology: SMT; Operating Temperature max.: 125C; Operating Temperature min.: -55C; Packaging: Tape and Reel; Rated Voltage: 10V; Size: 1206; Width: 1.6mm
footprint WCAP-CSGP_1206_L3.2W1.6H0.95
pins: 1, 2

## 885012008008
designator C?, comment 10nF, 10V
WCAP-CSGP Multilayer Ceramic Chip Capacitor, General Purpose, size 1206, NP0, 10nF, 10V; Manufacturer: Wurth Elektronik; Manufacturer Part Number: 885012008008; Capacitance Tolerance: +/-5%; Isolation Resistance: 10GOhm; Q-Factor: 1000; Technical Reference: NP01206103J010DFCT10000; Capacitance: 10nF; Ceramic Type: NP0; ComponentLink1Description: Manufacturer Link; ComponentLink1URL: http://www.we-online.de; ComponentLink2Description: Datasheet; ComponentLink2URL: https://www.we-online.com/catalog/datasheet/885012008008.pdf; Height: 1.25mm; Length: 3.2mm; Mounting Technology: SMT; Operating Temperature max.: 125C; Operating Temperature min.: -55C; Packaging: Tape and Reel; Rated Voltage: 10V; Size: 1206; Width: 1.6mm
footprint WCAP-CSGP_1206_L3.2W1.6H1.25
pins: 1, 2

## 885012008009
designator C?, comment 22nF, 10V
WCAP-CSGP Multilayer Ceramic Chip Capacitor, General Purpose, size 1206, NP0, 22nF, 10V; Manufacturer: Wurth Elektronik; Manufacturer Part Number: 885012008009; Capacitance Tolerance: +/-5%; Isolation Resistance: 10GOhm; Q-Factor: 1000; Technical Reference: NP01206223J010DFCT10000; Capacitance: 22nF; Ceramic Type: NP0; ComponentLink1Description: Manufacturer Link; ComponentLink1URL: http://www.we-online.de; ComponentLink2Description: Datasheet; ComponentLink2URL: https://www.we-online.com/catalog/datasheet/885012008009.pdf; Height: 1.6mm; Length: 3.2mm; Mounting Technology: SMT; Operating Temperature max.: 125C; Operating Temperature min.: -55C; Packaging: Tape and Reel; Rated Voltage: 10V; Size: 1206; Width: 1.6mm
footprint WCAP-CSGP_1206_L3.2W1.6H1.6
pins: 1, 2

## 885012008010
designator C?, comment 33nF, 10V
WCAP-CSGP Multilayer Ceramic Chip Capacitor, General Purpose, size 1206, NP0, 33nF, 10V; Manufacturer: Wurth Elektronik; Manufacturer Part Number: 885012008010; Capacitance Tolerance: +/-5%; Isolation Resistance: 10GOhm; Q-Factor: 1000; Technical Reference: NP01206333J010DFCT10000; Capacitance: 33nF; Ceramic Type: NP0; ComponentLink1Description: Manufacturer Link; ComponentLink1URL: http://www.we-online.de; ComponentLink2Description: Datasheet; ComponentLink2URL: https://www.we-online.com/catalog/datasheet/885012008010.pdf; Height: 1.6mm; Length: 3.2mm; Mounting Technology: SMT; Operating Temperature max.: 125C; Operating Temperature min.: -55C; Packaging: Tape and Reel; Rated Voltage: 10V; Size: 1206; Width: 1.6mm
footprint WCAP-CSGP_1206_L3.2W1.6H1.6
pins: 1, 2

## 885012008011
designator C?, comment 22pF, 16V
WCAP-CSGP Multilayer Ceramic Chip Capacitor, General Purpose, size 1206, NP0, 22pF, 16V; Manufacturer: Wurth Elektronik; Manufacturer Part Number: 885012008011; Capacitance Tolerance: +/-5%; Isolation Resistance: 10GOhm; Q-Factor: 840; Technical Reference: NP01206220J016DFCT10000; Capacitance: 22pF; Ceramic Type: NP0; ComponentLink1Description: Manufacturer Link; ComponentLink1URL: http://www.we-online.de; ComponentLink2Description: Datasheet; ComponentLink2URL: https://www.we-online.com/catalog/datasheet/885012008011.pdf; Height: 0.8mm; Length: 3.2mm; Mounting Technology: SMT; Operating Temperature max.: 125C; Operating Temperature min.: -55C; Packaging: Tape and Reel; Rated Voltage: 16V; Size: 1206; Width: 1.6mm
footprint WCAP-CSGP_1206_L3.2W1.6H0.8
pins: 1, 2

## 885012008012
designator C?, comment 100pF, 16V
WCAP-CSGP Multilayer Ceramic Chip Capacitor, General Purpose, size 1206, NP0, 100pF, 16V; Manufacturer: Wurth Elektronik; Manufacturer Part Number: 885012008012; Capacitance Tolerance: +/-5%; Isolation Resistance: 10GOhm; Q-Factor: 1000; Technical Reference: NP01206101J016DFCT10000; Capacitance: 100pF; Ceramic Type: NP0; ComponentLink1Description: Manufacturer Link; ComponentLink1URL: http://www.we-online.de; ComponentLink2Description: Datasheet; ComponentLink2URL: https://www.we-online.com/catalog/datasheet/885012008012.pdf; Height: 0.8mm; Length: 3.2mm; Mounting Technology: SMT; Operating Temperature max.: 125C; Operating Temperature min.: -55C; Packaging: Tape and Reel; Rated Voltage: 16V; Size: 1206; Width: 1.6mm
footprint WCAP-CSGP_1206_L3.2W1.6H0.8
pins: 1, 2

## 885012008013
designator C?, comment 150pF, 16V
WCAP-CSGP Multilayer Ceramic Chip Capacitor, General Purpose, size 1206, NP0, 150pF, 16V; Manufacturer: Wurth Elektronik; Manufacturer Part Number: 885012008013; Capacitance Tolerance: +/-5%; Isolation Resistance: 10GOhm; Q-Factor: 1000; Technical Reference: NP01206151J016DFCT10000; Capacitance: 150pF; Ceramic Type: NP0; ComponentLink1Description: Manufacturer Link; ComponentLink1URL: http://www.we-online.de; ComponentLink2Description: Datasheet; ComponentLink2URL: https://www.we-online.com/catalog/datasheet/885012008013.pdf; Height: 0.8mm; Length: 3.2mm; Mounting Technology: SMT; Operating Temperature max.: 125C; Operating Temperature min.: -55C; Packaging: Tape and Reel; Rated Voltage: 16V; Size: 1206; Width: 1.6mm
footprint WCAP-CSGP_1206_L3.2W1.6H0.8
pins: 1, 2

## 885012008014
designator C?, comment 220pF, 16V
WCAP-CSGP Multilayer Ceramic Chip Capacitor, General Purpose, size 1206, NP0, 220pF, 16V; Manufacturer: Wurth Elektronik; Manufacturer Part Number: 885012008014; Capacitance Tolerance: +/-5%; Isolation Resistance: 10GOhm; Q-Factor: 1000; Technical Reference: NP01206221J016DFCT10000; Capacitance: 220pF; Ceramic Type: NP0; ComponentLink1Description: Manufacturer Link; ComponentLink1URL: http://www.we-online.de; ComponentLink2Description: Datasheet; ComponentLink2URL: https://www.we-online.com/catalog/datasheet/885012008014.pdf; Height: 0.8mm; Length: 3.2mm; Mounting Technology: SMT; Operating Temperature max.: 125C; Operating Temperature min.: -55C; Packaging: Tape and Reel; Rated Voltage: 16V; Size: 1206; Width: 1.6mm
footprint WCAP-CSGP_1206_L3.2W1.6H0.8
pins: 1, 2

## 885012008015
designator C?, comment 2.2nF, 16V
WCAP-CSGP Multilayer Ceramic Chip Capacitor, General Purpose, size 1206, NP0, 2.2nF, 16V; Manufacturer: Wurth Elektronik; Manufacturer Part Number: 885012008015; Capacitance Tolerance: +/-5%; Isolation Resistance: 10GOhm; Q-Factor: 1000; Technical Reference: NP01206222J016DFCT10000; Capacitance: 2.2nF; Ceramic Type: NP0; ComponentLink1Description: Manufacturer Link; ComponentLink1URL: http://www.we-online.de; ComponentLink2Description: Datasheet; ComponentLink2URL: https://www.we-online.com/catalog/datasheet/885012008015.pdf; Height: 0.8mm; Length: 3.2mm; Mounting Technology: SMT; Operating Temperature max.: 125C; Operating Temperature min.: -55C; Packaging: Tape and Reel; Rated Voltage: 16V; Size: 1206; Width: 1.6mm
footprint WCAP-CSGP_1206_L3.2W1.6H0.8
pins: 1, 2

## 885012008016
designator C?, comment 6.8nF, 16V
WCAP-CSGP Multilayer Ceramic Chip Capacitor, General Purpose, size 1206, NP0, 6.8nF, 16V; Manufacturer: Wurth Elektronik; Manufacturer Part Number: 885012008016; Capacitance Tolerance: +/-5%; Isolation Resistance: 10GOhm; Q-Factor: 1000; Technical Reference: NP01206682J016DFCT10000; Capacitance: 6.8nF; Ceramic Type: NP0; ComponentLink1Description: Manufacturer Link; ComponentLink1URL: http://www.we-online.de; ComponentLink2Description: Datasheet; ComponentLink2URL: https://www.we-online.com/catalog/datasheet/885012008016.pdf; Height: 0.95mm; Length: 3.2mm; Mounting Technology: SMT; Operating Temperature max.: 125C; Operating Temperature min.: -55C; Packaging: Tape and Reel; Rated Voltage: 16V; Size: 1206; Width: 1.6mm
footprint WCAP-CSGP_1206_L3.2W1.6H0.95
pins: 1, 2

## 885012008017
designator C?, comment 10nF, 16V
WCAP-CSGP Multilayer Ceramic Chip Capacitor, General Purpose, size 1206, NP0, 10nF, 16V; Manufacturer: Wurth Elektronik; Manufacturer Part Number: 885012008017; Capacitance Tolerance: +/-5%; Isolation Resistance: 10GOhm; Q-Factor: 1000; Technical Reference: NP01206103J016DFCT10000; Capacitance: 10nF; Ceramic Type: NP0; ComponentLink1Description: Manufacturer Link; ComponentLink1URL: http://www.we-online.de; ComponentLink2Description: Datasheet; ComponentLink2URL: https://www.we-online.com/catalog/datasheet/885012008017.pdf; Height: 1.25mm; Length: 3.2mm; Mounting Technology: SMT; Operating Temperature max.: 125C; Operating Temperature min.: -55C; Packaging: Tape and Reel; Rated Voltage: 16V; Size: 1206; Width: 1.6mm
footprint WCAP-CSGP_1206_L3.2W1.6H1.25
pins: 1, 2

## 885012008018
designator C?, comment 2.2pF, 25V
WCAP-CSGP Multilayer Ceramic Chip Capacitor, General Purpose, size 1206, NP0, 2.2pF, 25V; Manufacturer: Wurth Elektronik; Manufacturer Part Number: 885012008018; Capacitance Tolerance: +/-0.5pF; Isolation Resistance: 10GOhm; Q-Factor: 444; Technical Reference: NP012062R2D025DFCT10000; Capacitance: 2.2pF; Ceramic Type: NP0; ComponentLink1Description: Manufacturer Link; ComponentLink1URL: http://www.we-online.de; ComponentLink2Description: Datasheet; ComponentLink2URL: https://www.we-online.com/catalog/datasheet/885012008018.pdf; Height: 0.8mm; Length: 3.2mm; Mounting Technology: SMT; Operating Temperature max.: 125C; Operating Temperature min.: -55C; Packaging: Tape and Reel; Rated Voltage: 25V; Size: 1206; Width: 1.6mm
footprint WCAP-CSGP_1206_L3.2W1.6H0.8
pins: 1, 2

## 885012008019
designator C?, comment 10pF, 25V
WCAP-CSGP Multilayer Ceramic Chip Capacitor, General Purpose, size 1206, NP0, 10pF, 25V; Manufacturer: Wurth Elektronik; Manufacturer Part Number: 885012008019; Capacitance Tolerance: +/-5%; Isolation Resistance: 10GOhm; Q-Factor: 600; Technical Reference: NP01206100J025DFCT10000; Capacitance: 10pF; Ceramic Type: NP0; ComponentLink1Description: Manufacturer Link; ComponentLink1URL: http://www.we-online.de; ComponentLink2Description: Datasheet; ComponentLink2URL: https://www.we-online.com/catalog/datasheet/885012008019.pdf; Height: 0.8mm; Length: 3.2mm; Mounting Technology: SMT; Operating Temperature max.: 125C; Operating Temperature min.: -55C; Packaging: Tape and Reel; Rated Voltage: 25V; Size: 1206; Width: 1.6mm
footprint WCAP-CSGP_1206_L3.2W1.6H0.8
pins: 1, 2

## 885012008020
designator C?, comment 33pF, 25V
WCAP-CSGP Multilayer Ceramic Chip Capacitor, General Purpose, size 1206, NP0, 33pF, 25V; Manufacturer: Wurth Elektronik; Manufacturer Part Number: 885012008020; Capacitance Tolerance: +/-5%; Isolation Resistance: 10GOhm; Q-Factor: 1000; Technical Reference: NP01206330J025DFCT10000; Capacitance: 33pF; Ceramic Type: NP0; ComponentLink1Description: Manufacturer Link; ComponentLink1URL: http://www.we-online.de; ComponentLink2Description: Datasheet; ComponentLink2URL: https://www.we-online.com/catalog/datasheet/885012008020.pdf; Height: 0.8mm; Length: 3.2mm; Mounting Technology: SMT; Operating Temperature max.: 125C; Operating Temperature min.: -55C; Packaging: Tape and Reel; Rated Voltage: 25V; Size: 1206; Width: 1.6mm
footprint WCAP-CSGP_1206_L3.2W1.6H0.8
pins: 1, 2

## 885012008021
designator C?, comment 47pF, 25V
WCAP-CSGP Multilayer Ceramic Chip Capacitor, General Purpose, size 1206, NP0, 47pF, 25V; Manufacturer: Wurth Elektronik; Manufacturer Part Number: 885012008021; Capacitance Tolerance: +/-5%; Isolation Resistance: 10GOhm; Q-Factor: 1000; Technical Reference: NP01206470J025DFCT10000; Capacitance: 47pF; Ceramic Type: NP0; ComponentLink1Description: Manufacturer Link; ComponentLink1URL: http://www.we-online.de; ComponentLink2Description: Datasheet; ComponentLink2URL: https://www.we-online.com/catalog/datasheet/885012008021.pdf; Height: 0.8mm; Length: 3.2mm; Mounting Technology: SMT; Operating Temperature max.: 125C; Operating Temperature min.: -55C; Packaging: Tape and Reel; Rated Voltage: 25V; Size: 1206; Width: 1.6mm
footprint WCAP-CSGP_1206_L3.2W1.6H0.8
pins: 1, 2